# Altium integrated library MCKPM-G1201A-K4037.IntLib: 1 symbol
Pins are listed as number, name and electrical type; pins without a type are passive.

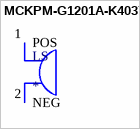
[diagram p0: symbol MCKPM-G1201A-K4037]

## MCKPM-G1201A-K4037
designator LS
Zumbador y transductor magnÃ©ticos; MF: Multicomp; MP: MCKPM-G1201A-K4037; Value: *; SnapEDA_Link: https://www.snapeda.com/parts/MCKPM-G1201A-K4037/Multicomp/view-part/231709/?ref=snap; Package: None; Availability: Unavailable; Price: None
footprint XDCR_MCKPM-G1201A-K4037
pins: 1 POS, 2 NEG